# Altium footprint library CONN-SPE-91228-3001_SIM_MOLEX.PcbLib: 1 footprints
Each footprint in its own frame and in the unit in brackets; x right, y up, seen from the top. Pads: shape width x height; smd on the part's side, far side on the other; paste and mask are expansions set on the pad; w line width, h text height; cw(c..) or ccw(c..) is an arc to the next point about the centre after c.
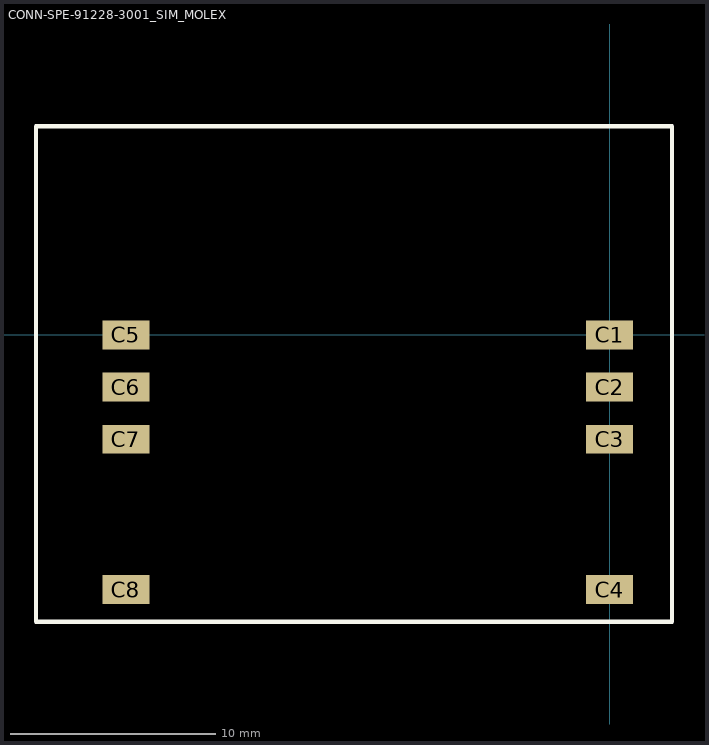
[diagram p0: the footprint, top view; thin cyan lines are the x and y axes]

## CONN-SPE-91228-3001_SIM_MOLEX [mm]
pads (8):
  rect 2.3x1.4 smd: C1(0,0) C2(0,-2.54) C3(0,-5.08) C4(0,-12.4) C5(-23.55,0) C6(-23.55,-2.54) C7(-23.55,-5.08) C8(-23.55,-12.4)
Top Overlay:
  lines w0.2: -27.94,-13.97 3.048,-13.97 3.048,10.16 -27.94,10.16 -27.94,-13.97
3D body: height 3, standoff -0.1, extent -28.892,-14.532 3.308,10.468